# Altium schematic symbol library CAP_POL.SchLib: 1 symbol
Pins are listed as number, name and electrical type; pins without a type are passive.

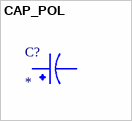
[diagram p0: symbol CAP_POL]

## CAP_POL
designator C?
Value: *
pins: 1, 2